# Altium footprint library numonyx-packages.PcbLib: 1 footprints
Each footprint in its own frame and in the unit in brackets; x right, y up, seen from the top. Pads: shape width x height; smd on the part's side, far side on the other; paste and mask are expansions set on the pad; w line width, h text height; cw(c..) or ccw(c..) is an arc to the next point about the centre after c.
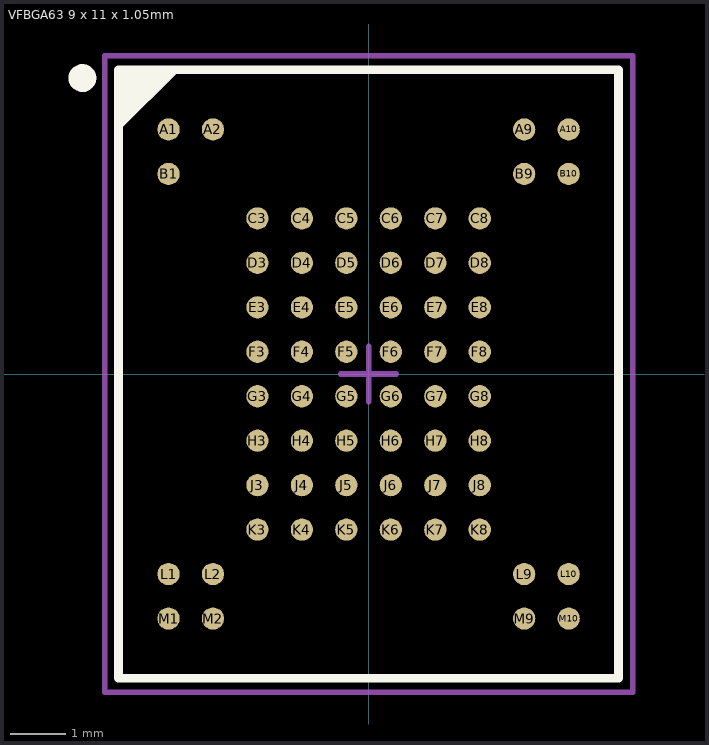
[diagram p0: the footprint, top view; thin cyan lines are the x and y axes]

## VFBGA63 9 x 11 x 1.05mm [mm] "BGA, 63-Leads, Body 10.9x9.0mm,  Pitch 0.80mm"
height 1.05
pads (63):
  round 0.4 smd: A1(-3.6,4.4) A2(-2.8,4.4) A9(2.8,4.4) A10(3.6,4.4) B1(-3.6,3.6) B9(2.8,3.6) B10(3.6,3.6) C3(-2,2.8) C4(-1.2,2.8) C5(-0.4,2.8) C6(0.4,2.8) C7(1.2,2.8) C8(2,2.8) D3(-2,2) D4(-1.2,2) D5(-0.4,2) D6(0.4,2) D7(1.2,2) D8(2,2) E3(-2,1.2) E4(-1.2,1.2) E5(-0.4,1.2) E6(0.4,1.2) E7(1.2,1.2) E8(2,1.2) F3(-2,0.4) F4(-1.2,0.4) F5(-0.4,0.4) F6(0.4,0.4) F7(1.2,0.4) F8(2,0.4) G3(-2,-0.4) G4(-1.2,-0.4) G5(-0.4,-0.4) G6(0.4,-0.4) G7(1.2,-0.4) G8(2,-0.4) H3(-2,-1.2) H4(-1.2,-1.2) H5(-0.4,-1.2) H6(0.4,-1.2) H7(1.2,-1.2) H8(2,-1.2) J3(-2,-2) J4(-1.2,-2) J5(-0.4,-2) J6(0.4,-2) J7(1.2,-2) J8(2,-2) K3(-2,-2.8) K4(-1.2,-2.8) K5(-0.4,-2.8) K6(0.4,-2.8) K7(1.2,-2.8) K8(2,-2.8) L1(-3.6,-3.6) L2(-2.8,-3.6) L9(2.8,-3.6) L10(3.6,-3.6) M1(-3.6,-4.4) M2(-2.8,-4.4) M9(2.8,-4.4) M10(3.6,-4.4)
Top Overlay:
  circle w0.25: c-5.15,5.325 r0.125
  region: -3.5,5.475 -4.5,4.475 -4.5,5.475
  lines w0.16: -4.5,4.475 -3.5,5.475 ; -4.5,-5.475 -4.5,5.475 4.5,5.475 4.5,-5.475 -4.5,-5.475
Mechanical 13:
  lines w0.1: -0.5,0 0.5,0 ; 0,-0.5 0,0.5 ; -4.5,-5.475 -4.5,5.475 4.5,5.475 4.5,-5.475 -4.5,-5.475
Mechanical 15:
  lines w0.1: -4.75,-5.725 -4.75,5.725 4.75,5.725 4.75,-5.725 -4.75,-5.725
  text ".Designator" at -2.5,-0.2 h0.5
3D body: height 1.05, standoff 0.4, extent -4.5,-5.475 4.5,5.475